# EAGLE library part LT1618EMSPBF (library Development_Board)
Constant-Current/Constant-Voltage 1.4MHz Step-Up DC/DC Converter
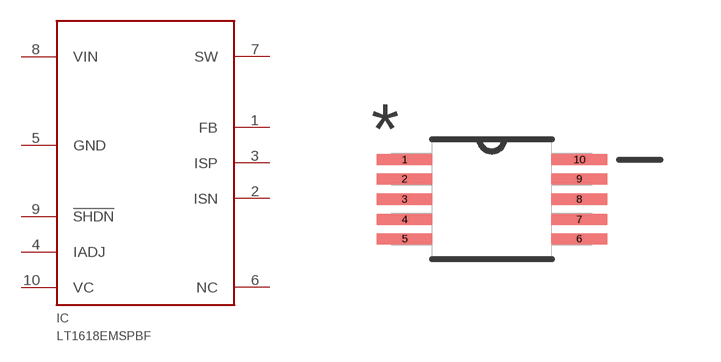
[diagram p3: symbol with the pads of SOP50P490X110-10N; footprint SOP50P490X110-10N]

Designator prefix IC

## LT1618EMSPBF (EES_ID: 00001201; MANUFACTOR: Linear Technologie; MPN: LT1618EMS#PBF; OC_FARNELL: 1273771; OC_NEWARK: 57M5248; PACKAGE: MSOP-10)  [SOP50P490X110-10N]
1  FB  in
2  ISN  in
3  ISP  in
4  IADJ  in
5  GND  pas
6  NC  nc
7  SW  out
8  VIN  pwr
9  !SHDN  in
10  VC  pas

## Footprint SOP50P490X110-10N (pad centres in mm)
smd 1.397 x 0.279: 1 -2.184,0.991; 2 -2.184,0.508; 3 -2.184,0; 4 -2.184,-0.508; 5 -2.184,-0.991; 6 2.184,-0.991; 7 2.184,-0.508; 8 2.184,0; 9 2.184,0.508; 10 2.184,0.991